# Altium schematic symbol library sch_STM32F401RB.SchLib: 4 symbols
Pins are listed as number, name and electrical type; pins without a type are passive.

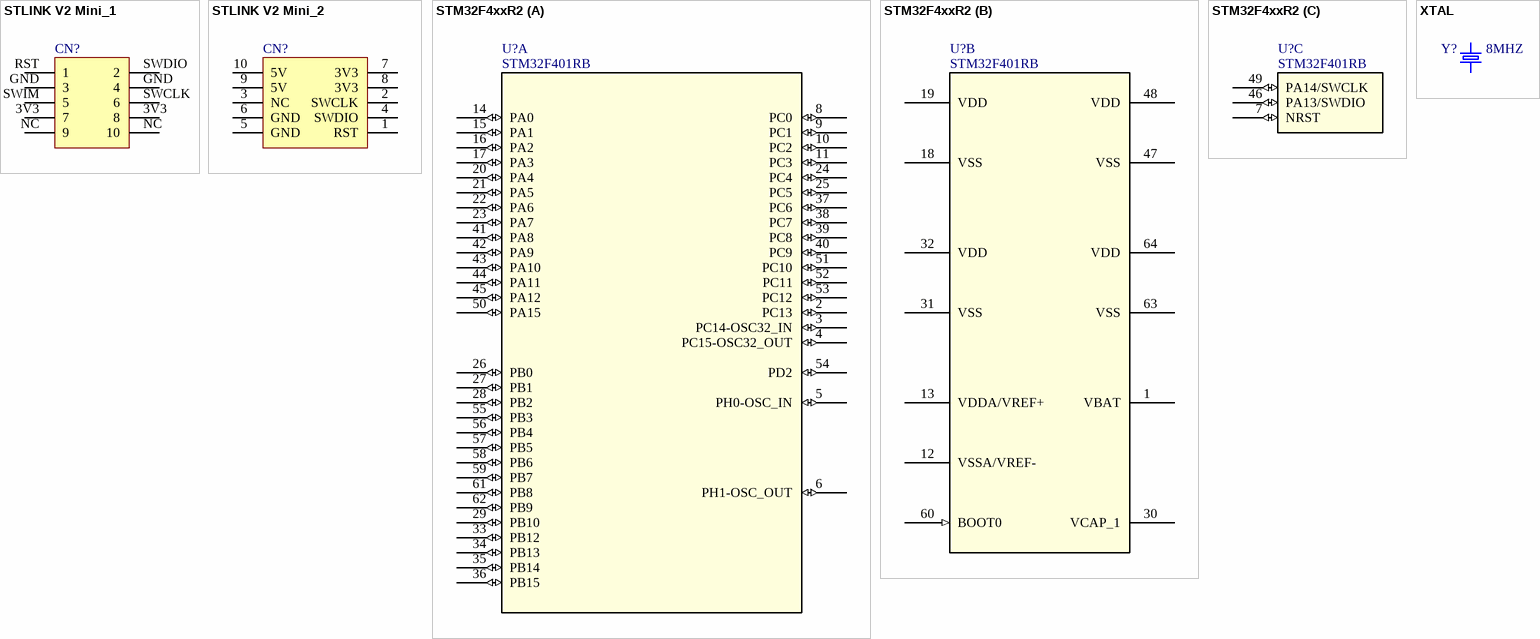
[diagram p0: symbols STLINK V2 Mini_1 to XTAL]

## STLINK V2 Mini_1
designator CN?
STLINK V2 Mini; Link: *; Fabricante: *
footprint IDC10M (10 pin IDC male header connector)
pins: 3V3 7, 3V3 8, GND 3, GND 4, NC 9, NC 10, RST 1, SWCLK 6, SWDIO 2, SWIM 5

## STLINK V2 Mini_2
designator CN?
STLINK V2 Mini; Link: *; Fabricante: *
footprint IDC10M (10 pin IDC male header connector)
pins: 1 RST, 2 SWCLK, 3 NC, 4 SWDIO, 5 GND, 6 GND, 7 3V3, 8 3V3, 9 5V, 10 5V

## STM32F4xxR2
designator U?, comment STM32F401RB
Manufacturer_Part_Number: stm32f4xxr2; Vendor: STMicroelectronics; _BOOT0=1: 1: System memory is selected as boot space; _BOOT0=0: 0: Main Flash memory is selected as boot space; _VDD: Capa de 100nF; _BOOT0: conectado a VDD o DGND a traves de R=10K; Proveedor: Digi-Key; Cod. Proveedor: 497-17428-ND; Value: Value; Link: *; Encapsulado: *; Manufacturer: STMicroelectronics
footprint LQFP64-10x10mm
part A pins: 2 PC13 (io), 3 PC14-OSC32_IN (io), 4 PC15-OSC32_OUT (io), 5 PH0-OSC_IN (io), 6 PH1-OSC_OUT (io), 8 PC0 (io), 9 PC1 (io), 10 PC2 (io), 11 PC3 (io), 14 PA0 (io), 15 PA1 (io), 16 PA2 (io), 17 PA3 (io), 20 PA4 (io), 21 PA5 (io), 22 PA6 (io), 23 PA7 (io), 24 PC4 (io), 25 PC5 (io), 26 PB0 (io), 27 PB1 (io), 28 PB2 (io), 29 PB10 (io), 33 PB12 (io), 34 PB13 (io), 35 PB14 (io), 36 PB15 (io), 37 PC6 (io), 38 PC7 (io), 39 PC8 (io), 40 PC9 (io), 41 PA8 (io), 42 PA9 (io), 43 PA10 (io), 44 PA11 (io), 45 PA12 (io), 50 PA15 (io), 51 PC10 (io), 52 PC11 (io), 53 PC12 (io), 54 PD2 (io), 55 PB3 (io), 56 PB4 (io), 57 PB5 (io), 58 PB6 (io), 59 PB7 (io), 61 PB8 (io), 62 PB9 (io)
part B pins: 1 VBAT (power), 12 VSSA/VREF- (power), 13 VDDA/VREF+ (power), 18 VSS (power), 19 VDD (power), 30 VCAP_1 (power), 31 VSS (power), 32 VDD (power), 47 VSS (power), 48 VDD (power), 60 BOOT0 (in), 63 VSS (power), 64 VDD (power)
part C pins: 7 NRST (io), 46 PA13/SWDIO (io), 49 PA14/SWCLK (io)

## XTAL
designator Y?  frecuencia: 8MHZ  (hidden comment: XTAL)
Resonador cerámico; Link: *; Fabricante: *
footprint XTAL_HC49/US_HS
pins: 1, 2